# Altium footprint library FerriteBeads.PcbLib: 1 footprints
Each footprint in its own frame and in the unit in brackets; x right, y up, seen from the top. Pads: shape width x height; smd on the part's side, far side on the other; paste and mask are expansions set on the pad; w line width, h text height; cw(c..) or ccw(c..) is an arc to the next point about the centre after c.
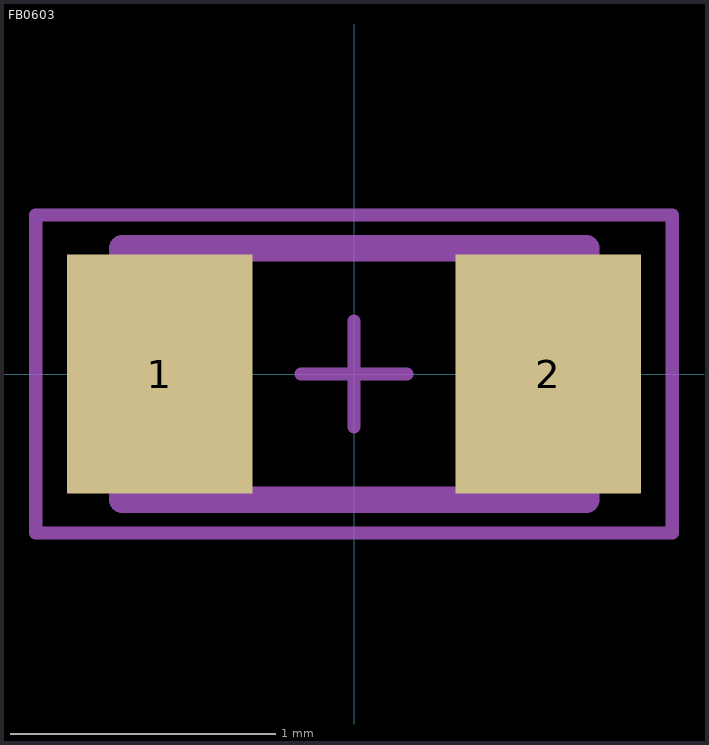
[diagram p0: the footprint, top view; thin cyan lines are the x and y axes]

## FB0603 [mm] "Chip Inductor, 2-Leads, Body 1,60x0,85mm, IPC Medium Density"
height 0.95
pads (2):
  rect 0.7x0.9 smd: 1(-0.732,0) 2(0.733,0)
Mechanical 13:
  lines w0.1: -0.875,-0.475 -0.875,0.475 0.875,0.475 0.875,-0.475 -0.875,-0.475
Mechanical 15:
  lines w0.05: -0.2,0 0.2,0 ; 0,-0.2 0,0.2 ; -1.2,-0.6 1.2,-0.6 1.2,0.6 -1.2,0.6 -1.2,-0.6
3D body "L0603.step": height 0.95, standoff 0, extent -0.875,-0.475 0.875,0.475